# EAGLE library part TSW-S-08 (library con-samtec-tsw)
HEADER
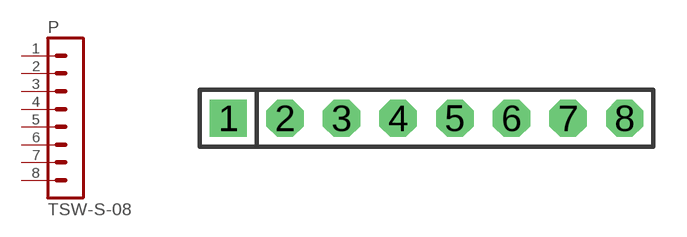
[diagram p2: symbol with the pads of TSW-S-08; footprint TSW-S-08]

Designator prefix P

## TSW-S-08  [TSW-S-08]
1  1  pas
2  2  pas
3  3  pas
4  4  pas
5  5  pas
6  6  pas
7  7  pas
8  8  pas

## Footprint TSW-S-08 (pad centres in mm)
HEADER
drill 0.914 pad 1.676 square: 1 -8.89,0
drill 0.914 pad 1.676 octagon: 2 -6.35,0; 3 -3.81,0; 4 -1.27,0; 5 1.27,0; 6 3.81,0; 7 6.35,0; 8 8.89,0